# Altium integrated library ST Memory EEPROM Serial.IntLib: 637 symbols (part 7 of 7)
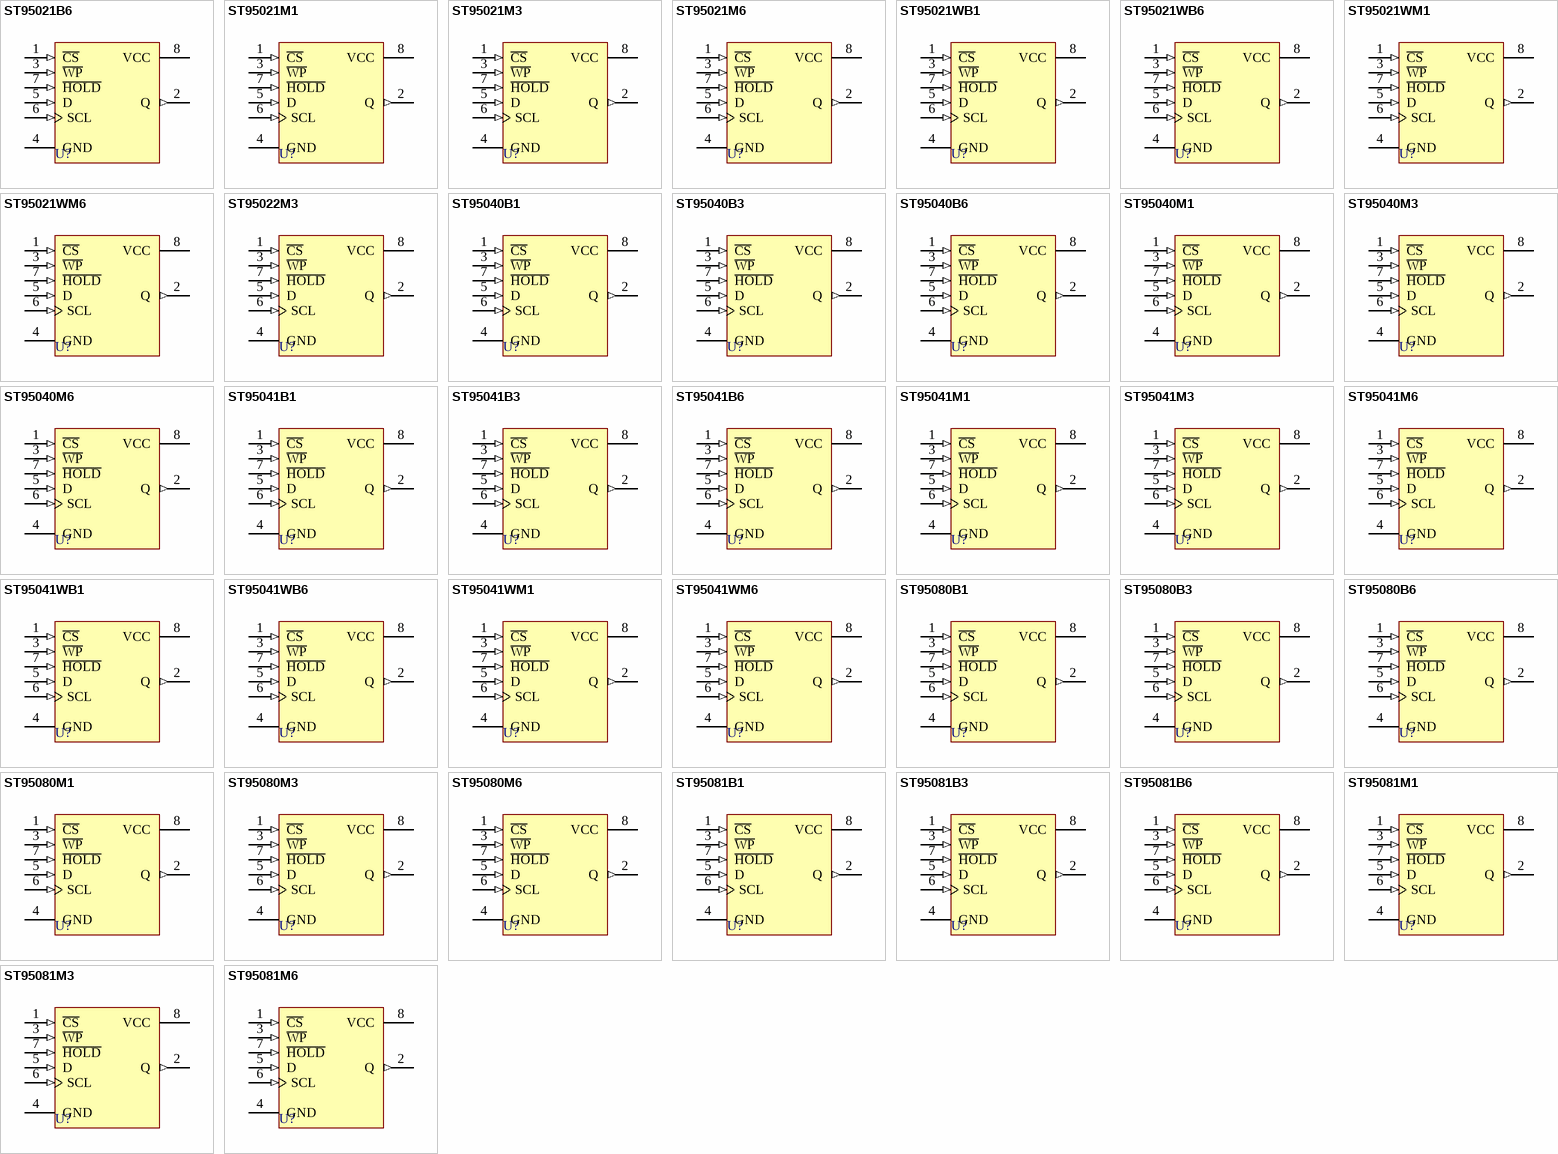
[diagram p21: symbols ST95021B6 to ST95081M6]

## ST95081M3
designator U?
Serial Access SPI Bus 8K (1024 x 8) EEPROM; Published: 24-Aug-2001; LatestRevisionDate: 17-Jul-2002; LatestRevisionNote: Re-released for DXP Platform.; DatasheetDocument: Oct-1995; PackageDocument: Jul-1999; PackageReference: SOP8; Publisher: Altium Limited
footprint SOP8 (Small Outline; 8 Leads; Body Width 3.9 mm; Pitch 1.27 mm)
pins: 1 ~{CS} (in), 2 Q (out), 3 ~{WP} (in), 4 GND (power), 5 D (in), 6 SCL (in), 7 ~{HOLD} (in), 8 VCC (power)

## ST95081M6
designator U?
Serial Access SPI Bus 8K (1024 x 8) EEPROM; Published: 24-Aug-2001; LatestRevisionDate: 17-Jul-2002; LatestRevisionNote: Re-released for DXP Platform.; DatasheetDocument: Oct-1995; PackageDocument: Jul-1999; PackageReference: SOP8; Publisher: Altium Limited
footprint SOP8 (Small Outline; 8 Leads; Body Width 3.9 mm; Pitch 1.27 mm)
pins: 1 ~{CS} (in), 2 Q (out), 3 ~{WP} (in), 4 GND (power), 5 D (in), 6 SCL (in), 7 ~{HOLD} (in), 8 VCC (power)